# Altium footprint library Trimpot_footprint.PcbLib: 1 footprints
Each footprint in its own frame and in the unit in brackets; x right, y up, seen from the top. Pads: shape width x height; smd on the part's side, far side on the other; paste and mask are expansions set on the pad; w line width, h text height; cw(c..) or ccw(c..) is an arc to the next point about the centre after c.
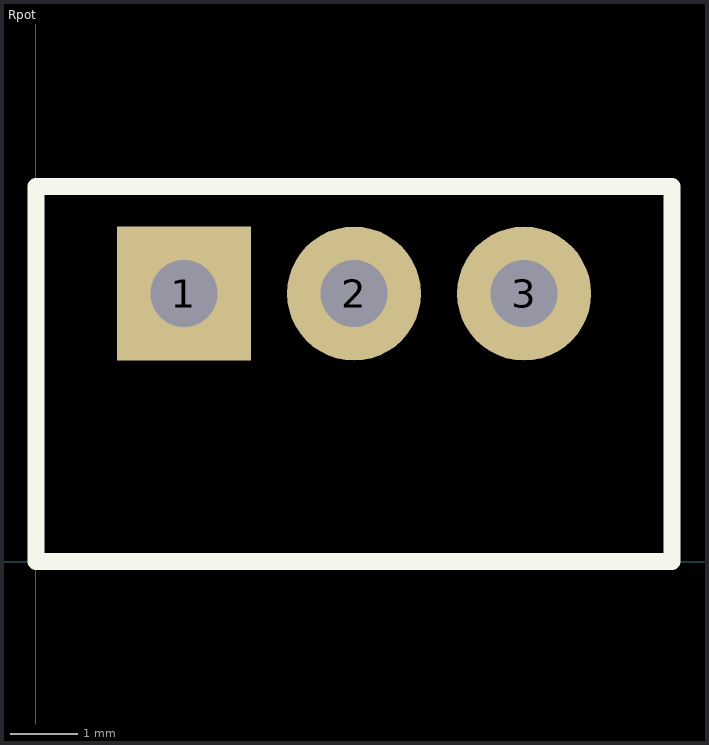
[diagram p0: the footprint, top view; thin cyan lines are the x and y axes]

## Rpot [mm] "Trim potentiometer"
pads (3):
  rect 2x2 hole 1: 1(2.21,4)
  round 2 hole 1: 2(4.75,4) 3(7.29,4)
Top Overlay:
  lines w0.254: 0,0 9.5,0 9.5,5.6 0,5.6 0,0